# EAGLE library part ARDUINO_UNO_R3 (library parts)
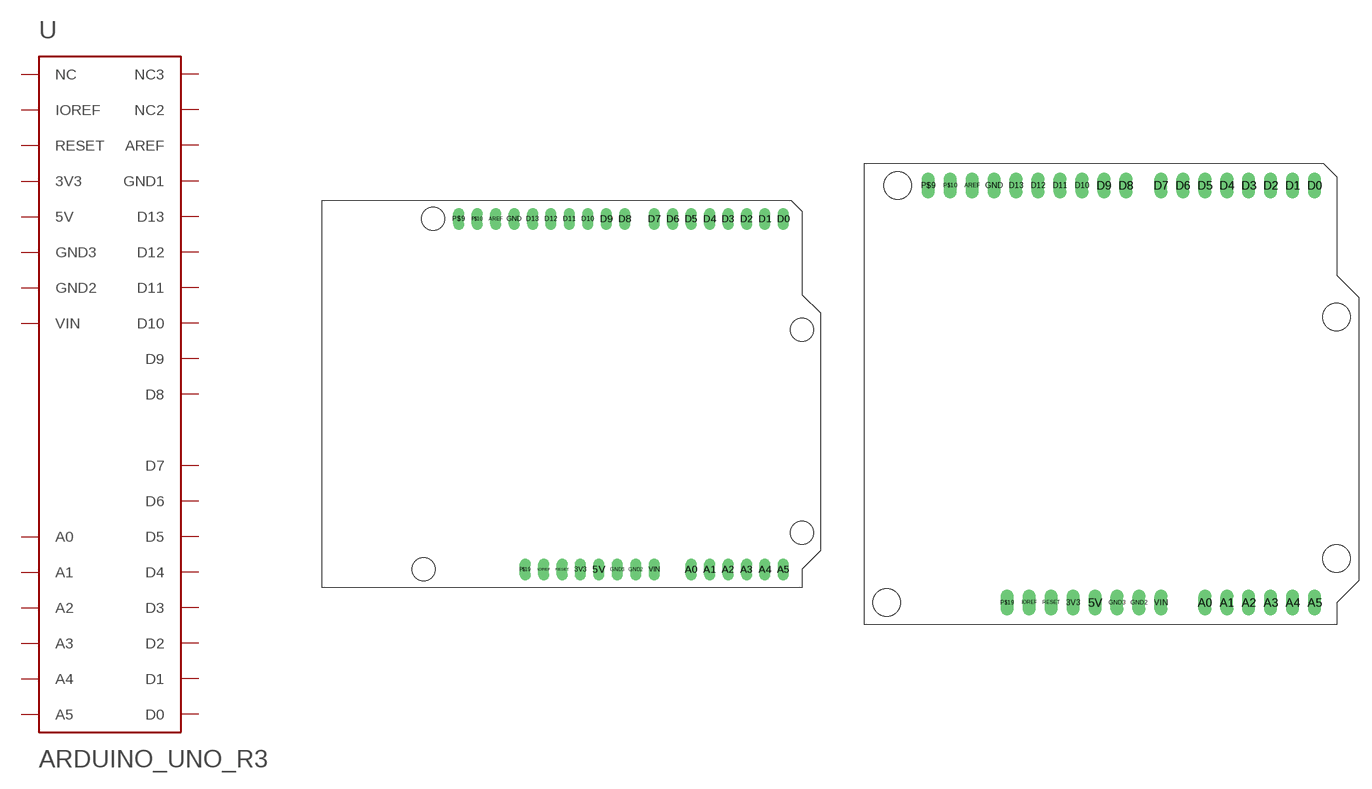
[diagram p3: symbol with the pads of ARDUINO_UNO_R3; footprints ARDUINO_UNO_R3, ARDUINO_UNO_R3_MIN]

Designator prefix -

## ARDUINO_UNO_R3  [ARDUINO_UNO_R3]
3V3  3V3
5V  5V
A0  A0
A1  A1
A2  A2
A3  A3
A4  A4
A5  A5
AREF  AREF
D0  D0
D1  D1
D2  D2
D3  D3
D4  D4
D5  D5
D6  D6
D7  D7
D8  D8
D9  D9
D10  D10
D11  D11
D12  D12
D13  D13
GND  GND1
GND2  GND2
GND3  GND3
IOREF  IOREF
P$9  NC
P$10  NC2
P$19  NC3
RESET  RESET
VIN  VIN

## ARDUINO_UNO_R3MINIMUM  [ARDUINO_UNO_R3_MIN]
Pads as for ARDUINO_UNO_R3

## Footprint ARDUINO_UNO_R3 (pad centres in mm)
drill 1 long: 3V3 35.56,2.54; 5V 38.1,2.54; A0 50.8,2.54; A1 53.34,2.54; A2 55.88,2.54; A3 58.42,2.54; A4 60.96,2.54; A5 63.5,2.54; AREF 23.876,50.8; D0 63.5,50.8; D1 60.96,50.8; D2 58.42,50.8; D3 55.88,50.8; D4 53.34,50.8; D5 50.8,50.8; D6 48.26,50.8; D7 45.72,50.8; D8 41.656,50.8; D9 39.116,50.8; D10 36.576,50.8; D11 34.036,50.8; D12 31.496,50.8; D13 28.956,50.8; GND 26.416,50.8; GND2 43.18,2.54; GND3 40.64,2.54; IOREF 30.48,2.54; P$9 18.796,50.8; P$10 21.336,50.8; P$19 27.94,2.54; RESET 33.02,2.54; VIN 45.72,2.54
hole 3.175 at 15.24,50.8
hole 3.175 at 13.97,2.54
hole 3.175 at 66.04,7.62
hole 3.175 at 66.04,35.56

## Footprint ARDUINO_UNO_R3_MIN (pad centres in mm)
drill 1 long: 3V3 24.13,2.54; 5V 26.67,2.54; A0 39.37,2.54; A1 41.91,2.54; A2 44.45,2.54; A3 46.99,2.54; A4 49.53,2.54; A5 52.07,2.54; AREF 12.446,50.8; D0 52.07,50.8; D1 49.53,50.8; D2 46.99,50.8; D3 44.45,50.8; D4 41.91,50.8; D5 39.37,50.8; D6 36.83,50.8; D7 34.29,50.8; D8 30.226,50.8; D9 27.686,50.8; D10 25.146,50.8; D11 22.606,50.8; D12 20.066,50.8; D13 17.526,50.8; GND 14.986,50.8; GND2 31.75,2.54; GND3 29.21,2.54; IOREF 19.05,2.54; P$9 7.366,50.8; P$10 9.906,50.8; P$19 16.51,2.54; RESET 21.59,2.54; VIN 34.29,2.54
hole 3.175 at 3.81,50.8
hole 3.175 at 2.54,2.54
hole 3.175 at 54.61,7.62
hole 3.175 at 54.61,35.56